# Altium integrated library Pulsadores.IntLib: 3 symbols
Pins are listed as number, name and electrical type; pins without a type are passive.

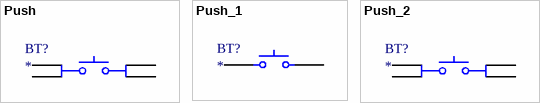
[diagram p0: symbols Push to Push_2]

## Push
designator BT?
footprint SW_4-1437565-2
footprint B3F-5050
footprint JTP1138A6EM
footprint TL1105NF250Q
footprint PTS526 SMG20 SMTR21
footprint RKC2SJF170SMTR
pins: 1 COMMON, 2 COMMON, 3 COMMON, 4 COMMON

## Push_1
designator BT?
footprint EVP-AWED4A
footprint PTS636 SM25 SMTRLFS
pins: 1 COMMON, 2 COMMON

## Push_2
designator BT?
footprint 223JMVAAR
pins: 1 COMMON, 2 COMMON, 3 COMMON, 4 COMMON